# Altium integrated library AD8138.IntLib: 1 symbol
Pins are listed as number, name and electrical type; pins without a type are passive.

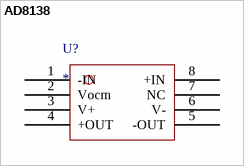
[diagram p0: symbol AD8138]

## AD8138
designator U?
footprint AD8138(SOIC127P600X175-8N) (SOIC, 8-Leads, Body 4.90x3.90mm, Pitch 1.27mm, IPC Medium Density)
pins: 1 -IN, 2 Vocm, 3 V+, 4 +OUT, 5 -OUT, 6 V-, 7 NC, 8 +IN